# Altium footprint library ALL_IN_PJ.PcbLib: 6 footprints
Each footprint in its own frame and in the unit in brackets; x right, y up, seen from the top. Pads: shape width x height; smd on the part's side, far side on the other; paste and mask are expansions set on the pad; w line width, h text height; cw(c..) or ccw(c..) is an arc to the next point about the centre after c.
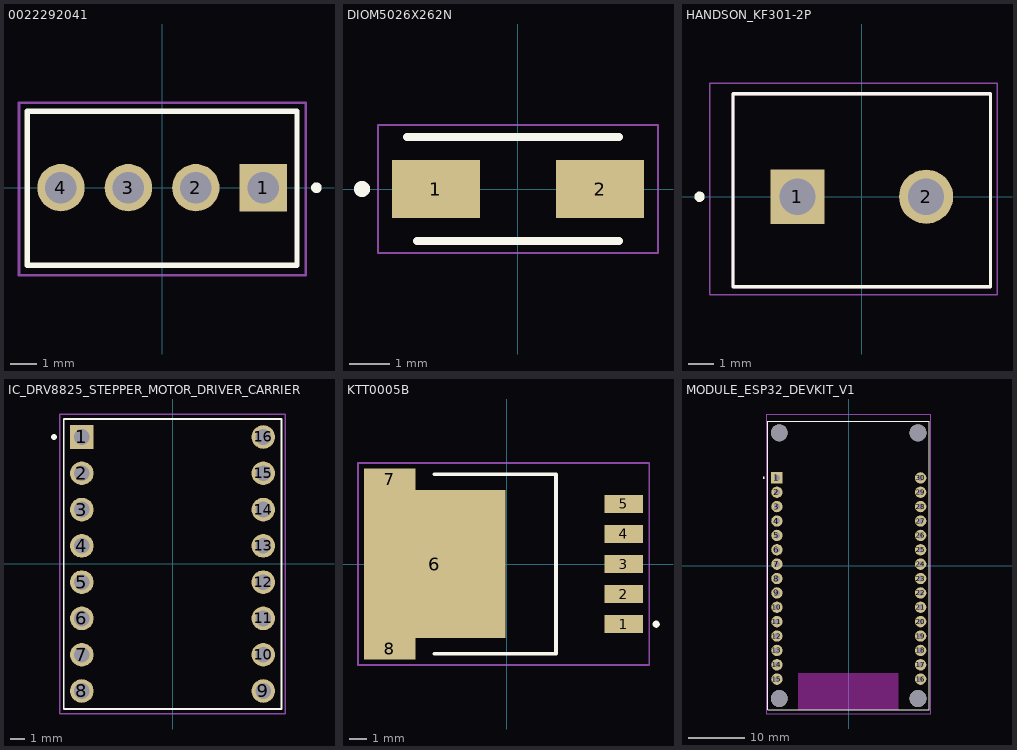
[diagram p0: the footprints below, top view; thin cyan lines are the x and y axes]

## 0022292041 [mm]
pads (4):
  rect 1.785x1.785 hole 1.19: 1(3.81,0)
  round 1.785 hole 1.19: 2(1.27,0) 3(-1.27,0) 4(-3.81,0)
Top Overlay:
  circle w0.2: c5.81,0 r0.1
  lines w0.2: -5.08,-2.92 5.08,-2.92 5.08,2.88 -5.08,2.88 -5.08,-2.92
Mechanical 13:
  lines w0.1: -5.08,-2.92 5.08,-2.92 5.08,2.88 -5.08,2.88 -5.08,-2.92
Border:
  lines w0.1: -5.39,-3.3 5.41,-3.3 5.41,3.2 -5.39,3.2 -5.39,-3.3
3D body "022292041.stp": height 11.72, standoff -3.54, extent -5.08,-2.9 5.08,2.9

## DIOM5026X262N [mm]
pads (2):
  rect 2.2x1.45 smd: 1(-2.05,0) 2(2.05,0)
Top Overlay:
  circle w0.2: c-3.9,0 r0.1
  lines w0.2: -2.775,1.3 2.52,1.3 ; -2.52,-1.3 2.52,-1.3
Border:
  lines w0.05: -3.5,-1.6 -3.5,1.6 3.5,1.6 3.5,-1.6 -3.5,-1.6
3D body "SS54.stp": height 2.62, standoff 0, extent -2.52,-1.3 2.52,1.3

## HANDSON_KF301-2P [mm]
pads (2):
  rect 2.1x2.1 hole 1.4: 1(-2.5,0)
  round 2.1 hole 1.4: 2(2.5,0)
Top Overlay:
  circle w0.2: c-6.3,0 r0.1
  lines w0.127: -5,-3.5 -5,4 5,4 5,-3.5 -5,-3.5
Mechanical 13:
  lines w0.127: -5,-3.5 5,-3.5 5,4 -5,4 -5,-3.5
Border:
  lines w0.05: -5.9,-3.8 5.25,-3.8 5.25,4.4 -5.9,4.4 -5.9,-3.8
3D body "KF301-2P--3DModel-STEP-510211.STEP": height 10, standoff -4.5, extent -5.6,-3.35 5,4.15

## IC_DRV8825_STEPPER_MOTOR_DRIVER_CARRIER [mm]
pads (16):
  rect 1.65x1.65 hole 1.1: 1(-6.35,8.89)
  round 1.65 hole 1.1: 2(-6.35,6.35) 3(-6.35,3.81) 4(-6.35,1.27) 5(-6.35,-1.27) 6(-6.35,-3.81) 7(-6.35,-6.35) 8(-6.35,-8.89) 9(6.35,-8.89) 10(6.35,-6.35) 11(6.35,-3.81) 12(6.35,-1.27) 13(6.35,1.27) 14(6.35,3.81) 15(6.35,6.35) 16(6.35,8.89)
Top Overlay:
  circle w0.2: c-8.3,8.89 r0.1
  lines w0.127: -7.62,-10.16 -7.62,10.16 7.62,10.16 7.62,-10.16 -7.62,-10.16
Border:
  lines w0.1: -7.9,-10.5 7.9,-10.5 7.9,10.5 -7.9,10.5 -7.9,-10.5
3D body "DRV8825 STEPPER MOTOR DRIVER CARRIER--3DModel-STEP-1.STEP": height 5.89, standoff -5.99, extent -7.62,-10.16 7.62,10.16

## KTT0005B [mm]
pads (8):
  rect 2.16x1.02 smd: 1(6.608,-3.4) 2(6.608,-1.7) 3(6.608,0) 4(6.608,1.7) 5(6.608,3.4)
  rect 8x8.33 smd: 6(-4.067,0)
  rect 2.91x1.235 smd: 7(-6.607,4.782) 8(-6.607,-4.782)
Top Overlay:
  circle w0.2: c8.447,-3.4 r0.1
  lines w0.2: -4.097,-5.08 2.787,-5.08 2.787,5.08 -4.097,5.08
Border:
  lines w0.1: -8.392,-5.7 -8.392,5.7 8.047,5.7 8.047,-5.7 -8.392,-5.7
3D body "LM2596S-5.0.stp": height 4.72, standoff 0, extent -7.702,-5.08 6.648,5.08

## MODULE_ESP32_DEVKIT_V1 [mm]
height 6.8
pads (34):
  rect 2x2 hole 1.02: 1(-12.7,15.515)
  round 2 hole 1.02: 2(-12.7,12.975) 3(-12.7,10.435) 4(-12.7,7.895) 5(-12.7,5.355) 6(-12.7,2.815) 7(-12.7,0.275) 8(-12.7,-2.265) 9(-12.7,-4.805) 10(-12.7,-7.345) 11(-12.7,-9.885) 12(-12.7,-12.425) 13(-12.7,-14.965) 14(-12.7,-17.505) 15(-12.7,-20.045) 16(12.7,-20.045) 17(12.7,-17.505) 18(12.7,-14.965) 19(12.7,-12.425) 20(12.7,-9.885) 21(12.7,-7.345) 22(12.7,-4.805) 23(12.7,-2.265) 24(12.7,0.275) 25(12.7,2.815) 26(12.7,5.355) 27(12.7,7.895) 28(12.7,10.435) 29(12.7,12.975) 30(12.7,15.515)
  round 3 hole 3 unplated: ""(-12.28,-23.475) ""(-12.28,23.475) ""(12.23,-23.475) ""(12.23,23.475)
Top Overlay:
  circle w0.2: c-15,15.515 r0.1
  lines w0.127: -14.28,-25.475 -8.91,-25.475 8.78,-25.475 14.23,-25.475 ; -14.28,-25.475 -14.28,25.475 ; -14.28,-25.475 -14.28,25.475 ; -14.28,-25.475 14.23,-25.475 ; -14.28,25.475 -3.211,25.475 3.5,25.475 14.23,25.475 ; -14.28,25.475 14.23,25.475 ; 14.23,-25.475 14.23,25.475 ; 14.23,-25.475 14.23,25.475
Keep-Out Layer:
  region: 8.78,-25.475 -8.91,-25.475 -8.91,-18.985 8.78,-18.985
Border:
  lines w0.05: -14.6,-26.2 -14.6,26.8 14.48,26.8 14.48,-26.2 -14.6,-26.2
3D body "ESP32-DEVKIT-V1--3DModel-STEP-269445.STEP": height 7.05, standoff -6, extent -14.1,-25.9 14.1,26.55